# Altium footprint library 691 317 510 0xx.PcbLib: 6 footprints
Each footprint in its own frame and in the unit in brackets; x right, y up, seen from the top. Pads: shape width x height; smd on the part's side, far side on the other; paste and mask are expansions set on the pad; w line width, h text height; cw(c..) or ccw(c..) is an arc to the next point about the centre after c.
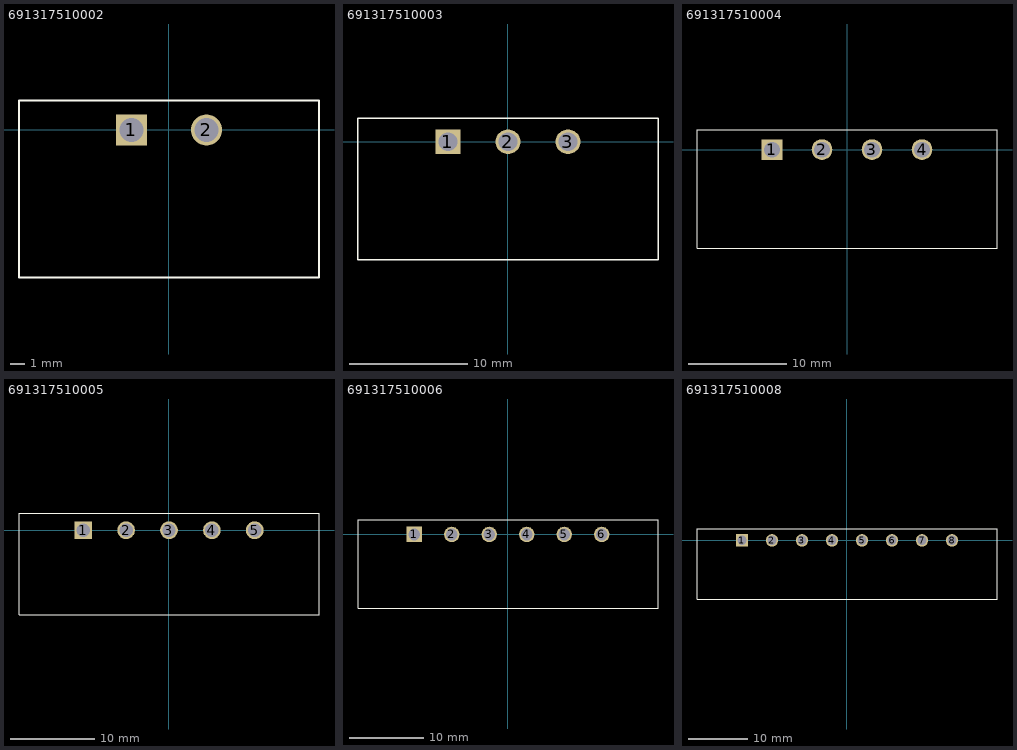
[diagram p0: the footprints below, top view; thin cyan lines are the x and y axes]

## 691317510002 [mm] "5,08mm - PCB Horizontal Closed With flanges - 02p"
height 8.5
pads (2):
  rect 2.1x2.1 hole 1.6: 1(-2.54,0)
  round 2.1 hole 1.6: 2(2.54,0)
Top Overlay:
  lines w0.127: -10.16,-10 10.16,-10 10.16,2 -10.16,2 -10.16,-10
3D body: height 8.51, standoff -3.49, extent -10.16,-10 10.16,2

## 691317510003 [mm] "5,08mm - PCB Horizontal Closed With flanges - 03p"
height 8.5
pads (3):
  rect 2.1x2.1 hole 1.6: 1(-5.08,0)
  round 2.1 hole 1.6: 2(0,0) 3(5.08,0)
Top Overlay:
  lines w0.127: -12.7,-10 -12.7,2 12.7,2 12.7,-10 -12.7,-10
3D body: height 8.51, standoff -3.49, extent -12.7,-10 12.7,2

## 691317510004 [mm] "5,08mm - PCB Horizontal Closed With flanges - 04p"
height 8.5
pads (4):
  rect 2.1x2.1 hole 1.6: 1(-7.62,0)
  round 2.1 hole 1.6: 2(-2.54,0) 3(2.54,0) 4(7.62,0)
Top Overlay:
  lines w0.127: -15.24,-10 -15.24,2 15.24,2 15.24,-10 -15.24,-10
3D body: height 8.51, standoff -3.49, extent -15.24,-10 15.24,2

## 691317510005 [mm] "5,08mm - PCB Horizontal Closed With flanges - 05p"
height 8.5
pads (5):
  rect 2.1x2.1 hole 1.6: 1(-10.16,0)
  round 2.1 hole 1.6: 2(-5.08,0) 3(0,0) 4(5.08,0) 5(10.16,0)
Top Overlay:
  lines w0.127: -17.78,-10 -17.78,2 17.78,2 17.78,-10 -17.78,-10
3D body: height 8.51, standoff -3.49, extent -17.78,-10 17.78,2

## 691317510006 [mm] "5,08mm - PCB Horizontal Closed With flanges - 06p"
height 8.5
pads (6):
  rect 2.1x2.1 hole 1.6: 1(-12.7,0)
  round 2.1 hole 1.6: 2(-7.62,0) 3(-2.54,0) 4(2.54,0) 5(7.62,0) 6(12.7,0)
Top Overlay:
  lines w0.127: -20.32,-10 20.32,-10 20.32,2 -20.32,2 -20.32,-10
3D body: height 8.51, standoff -3.49, extent -20.32,-10 20.32,2

## 691317510008 [mm] "5,08mm - PCB Horizontal Closed With flanges - 08p"
height 8.5
pads (8):
  rect 2.1x2.1 hole 1.6: 1(-17.78,0)
  round 2.1 hole 1.6: 2(-12.7,0) 3(-7.62,0) 4(-2.54,0) 5(2.54,0) 6(7.62,0) 7(12.7,0) 8(17.78,0)
Top Overlay:
  lines w0.127: -25.4,-10 -25.4,2 25.4,2 25.4,-10 -25.4,-10
3D body: height 8.51, standoff -3.49, extent -25.4,-10 25.4,2